# Altium integrated library TIP41C.IntLib: 1 symbol
Pins are listed as number, name and electrical type; pins without a type are passive.

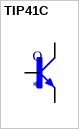
[diagram p0: symbol TIP41C]

## TIP41C
designator Q
Transistor bipolar _BJT_ NPN 100V 6A 3MHz 2W Agujero pasante TO-220-3; MF: Central Semiconductor; MP: TIP41C; Package: TO-220-3 Central Semiconductor; Value: *; Price: None; Availability: Unavailable; SnapEDA_Link: https://www.snapeda.com/parts/TIP41C/Central%20Semiconductor%20Corp/view-part/2759871/?ref=snap
footprint TO220AV
pins: B, C, E